# Altium footprint library usomiq-audio.PcbLib: 14 footprints
Each footprint in its own frame and in the unit in brackets; x right, y up, seen from the top. Pads: shape width x height; smd on the part's side, far side on the other; paste and mask are expansions set on the pad; w line width, h text height; cw(c..) or ccw(c..) is an arc to the next point about the centre after c.
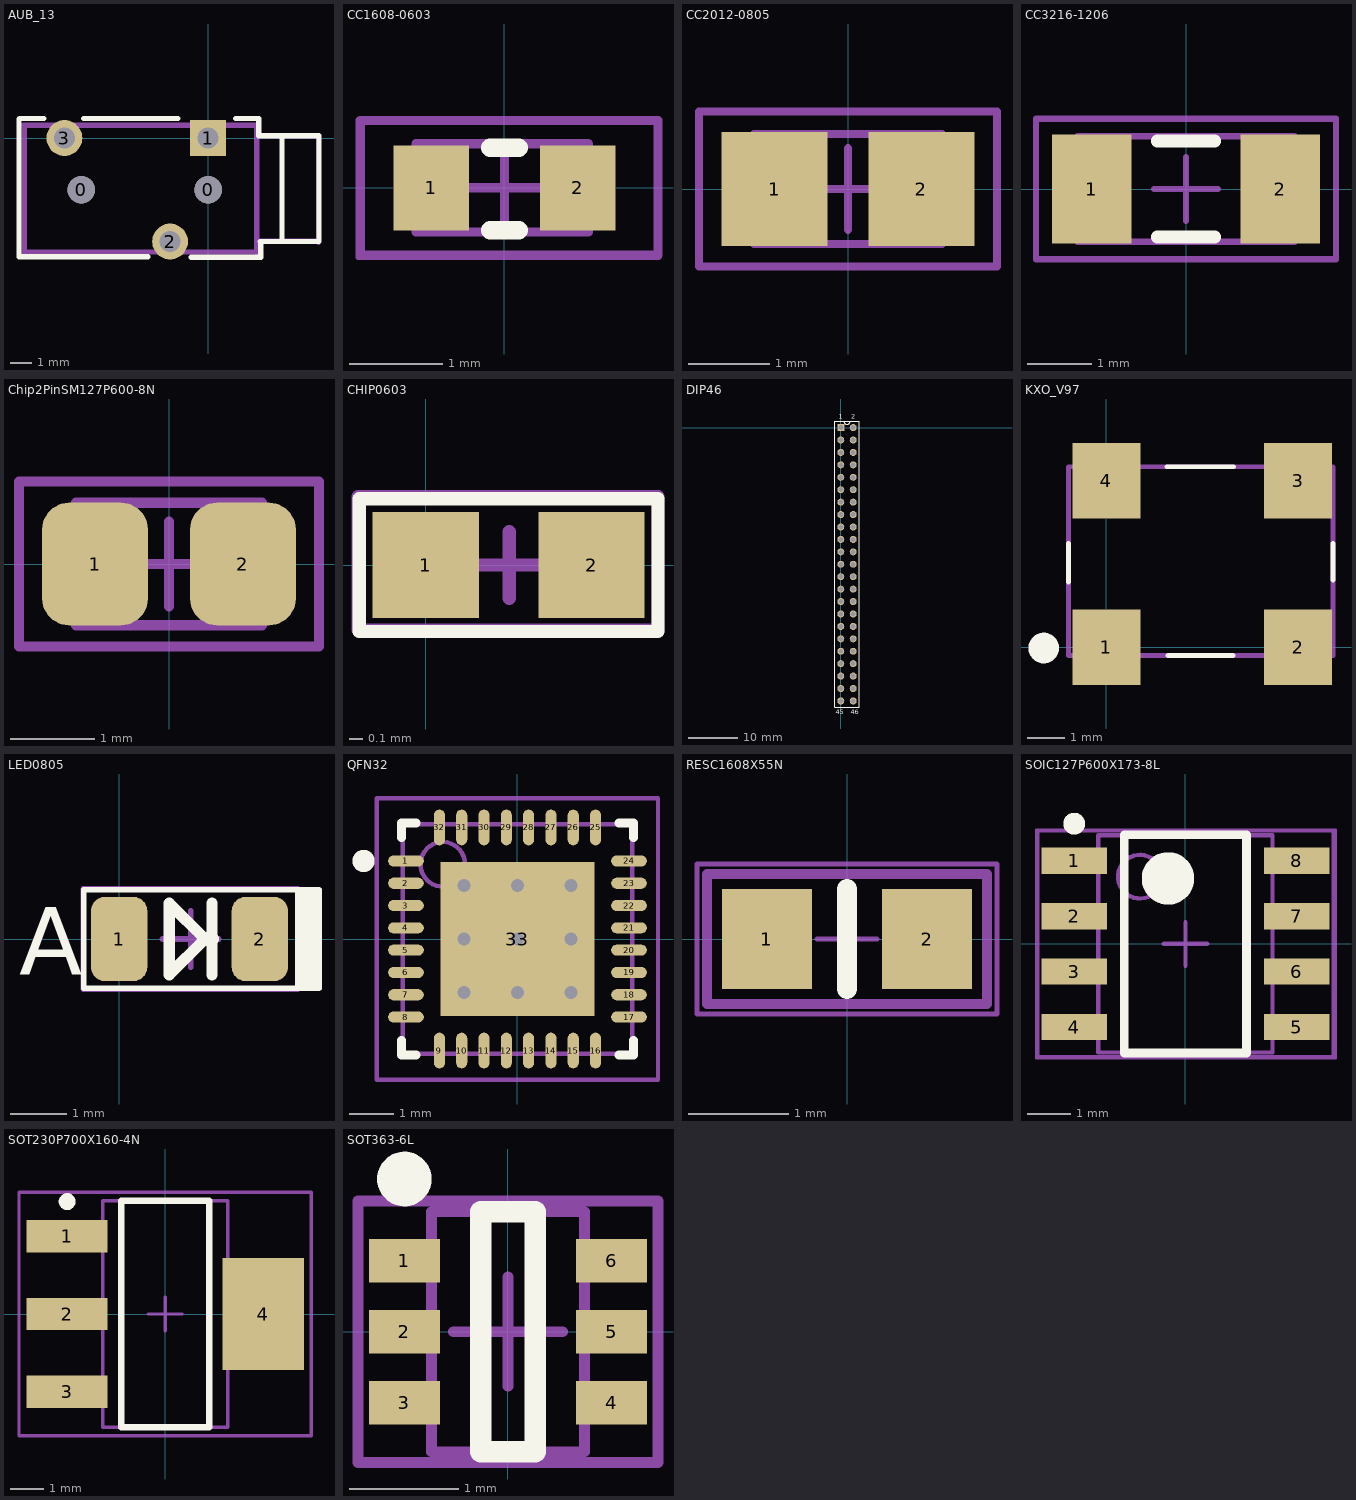
[diagram p0: the footprints below, top view; thin cyan lines are the x and y axes]

## AUB_13 [mm] "3.5mm audio jack, PTH on pcb, 3 contacts"
height 5
pads (5):
  round 1.3 hole 1.3 unplated: 0(-6,-2.45) 0(0,-2.45)
  rect 1.7x1.7 hole 1: 1(0,0)
  round 1.7 hole 1: 2(-1.8,-4.9) 3(-6.8,0)
Top Overlay:
  lines w0.254: -7.775,0.925 -8.925,0.925 -8.95,0.9 -8.95,-5.625 -2.85,-5.625 ; -5.9,0.925 -1.425,0.925 ; -0.8,-5.65 2.5,-5.65 2.5,-4.925 ; 1.3,0.925 2.4,0.925 2.4,0.1 5.25,0.1 5.25,-4.9 3.5,-4.9 3.5,0.1 ; 2.475,-4.9 5.225,-4.9
Mechanical 15:
  lines w0.254: -8.725,0.6 2.275,0.6 ; -8.7,-5.4 -8.7,0.6 ; -8.675,-5.375 2.275,-5.401 ; 2.3,-5.4 2.3,0.6 ; 2.3,-4.875 5.225,-4.875 ; 2.3,0.1 5.2,0.1 ; 5.225,-4.925 5.225,0.05
3D body: height 5, standoff 0, extent -8.725,-5.375 5.2,0.6

## CC1608-0603 [mil] "Chip Capacitor, 2-Leads, Body 1,6x0,8mm, IPC Medium Density"
height 17.72
pads (2):
  rect 32x36 smd: 1(-31,0) 2(31,0)
Top Overlay:
  lines w7.87: -6,-18 6,-18 ; -6,17 6,17
Mechanical 2:
  lines w1.97: -62.01,-29.53 64.96,-29.53 64.96,28.54 -62.01,28.54 -62.01,-29.53
  text ".designator" at -43.31,-10.83 h19.68
Mechanical 13:
  lines w3.94: -37.42,-18.7 -37.42,18.7 35.42,18.7 35.42,-18.7 -37.42,-18.7
Mechanical 15:
  lines w3.94: -18.7,0 18.7,0 ; 0,-18.7 0,18.7 ; -60.99,-28.54 64.99,-28.54 64.99,28.54 -60.99,28.54 -60.99,-28.54
3D body: height 31.5, standoff 0, extent -31.49,-15.74 31.5,15.75

## CC2012-0805 [mm] "Chip Capacitor, 2-Leads, Body 2,0x1,25mm, IPC Medium Density"
height 0.6
pads (2):
  rect 1.3x1.4 smd: 1(-0.9,0) 2(0.9,0)
Mechanical 2:
  lines w0.05: -1.85,0.925 -1.85,-0.925 1.825,-0.925 1.825,0.95 -1.85,0.95
  text ".designator" at -1.525,-0.225 h0.5
Mechanical 13:
  lines w0.1: -1.15,-0.675 1.15,-0.675 1.15,0.675 -1.15,0.675 -1.15,-0.675
Mechanical 15:
  lines w0.1: -0.5,0 0.5,0 ; 0,-0.5 0,0.5 ; -1.825,-0.95 1.825,-0.95 1.825,0.95 -1.825,0.95 -1.825,-0.95
3D body: height 1.2, standoff 0, extent -1,-0.6 1,0.6

## CC3216-1206 [mm] "Chip Capacitor, 2-Leads, Body 3,2x1,6mm, IPC Medium Density"
height 0.7
pads (2):
  rect 1.25x1.7 smd: 1(-1.475,0) 2(1.475,0)
Top Overlay:
  lines w0.2: -0.45,-0.75 0.45,-0.75 ; -0.45,0.75 0.45,0.75
Mechanical 2:
  lines w0.05: -2.35,-1.1 2.35,-1.1 2.35,1.1 -2.35,1.1 -2.35,-1.1
  text ".designator" at -1.775,-0.2 h0.5
Mechanical 13:
  lines w0.1: -1.7,-0.825 1.7,-0.825 1.7,0.825 -1.7,0.825 -1.7,-0.825
Mechanical 15:
  lines w0.1: -0.5,0 0.5,0 ; 0,-0.5 0,0.5 ; -2.35,-1.1 2.35,-1.1 2.35,1.1 -2.35,1.1 -2.35,-1.1
3D body: height 0.7, standoff 0, extent -1.7,-0.825 1.7,0.825

## Chip2PinSM127P600-8N [mm]
height 1.05
pads (2):
  rrect50% 1.25x1.45 smd: 1(-0.875,0) 2(0.875,0)
Mechanical 13:
  lines w0.12: -1.1,-0.725 1.1,-0.725 1.1,0.725 -1.1,0.725 -1.1,-0.725
Mechanical 15:
  lines w0.12: -0.5,0 0.5,0 ; 0,-0.5 0,0.5 ; -1.775,-0.975 1.775,-0.975 1.775,0.975 -1.775,0.975 -1.775,-0.975
3D body: height 1.05, standoff 0, extent -1.1,-0.725 1.1,0.725

## CHIP0603 [mm]
height 0.7
pads (2):
  rect 0.8x0.8 smd: 1(0,0) 2(1.25,0)
Top Overlay:
  lines w0.1: -0.5,-0.5 1.75,-0.5 1.75,0.5 -0.5,0.5 -0.5,-0.5
Mechanical 13:
  lines w0.1: -0.51,-0.49 1.75,-0.49 1.75,0.51 -0.51,0.51 -0.51,-0.49
Mechanical 15:
  lines w0.1: 0.38,0 0.88,0 ; 0.63,-0.25 0.63,0.25 ; -0.51,-0.49 1.75,-0.49 1.75,0.516 -0.51,0.516 -0.51,-0.49
3D body: height 0.7, standoff 0.1, extent -0.525,-0.5 1.75,0.51
3D body: height 0.95, standoff 0, extent -0.165,-0.4 1.435,0.4

## DIP46 [mm]
pads (46):
  rect 1.42x1.42 hole 1.02: 1(0,0)
  round 1.42 hole 1.02: 2(2.54,0) 3(0,-2.54) 4(2.54,-2.54) 5(0,-5.08) 6(2.54,-5.08) 7(0,-7.62) 8(2.54,-7.62) 9(0,-10.16) 10(2.54,-10.16) 11(0,-12.7) 12(2.54,-12.7) 13(0,-15.24) 14(2.54,-15.24) 15(0,-17.78) 16(2.54,-17.78) 17(0,-20.32) 18(2.54,-20.32) 19(0,-22.86) 20(2.54,-22.86) 21(0,-25.4) 22(2.54,-25.4) 23(0,-27.94) 24(2.54,-27.94) 25(0,-30.48) 26(2.54,-30.48) 27(0,-33.02) 28(2.54,-33.02) 29(0,-35.56) 30(2.54,-35.56) 31(0,-38.1) 32(2.54,-38.1) 33(0,-40.64) 34(2.54,-40.64) 35(0,-43.18) 36(2.54,-43.18) 37(0,-45.72) 38(2.54,-45.72) 39(0,-48.26) 40(2.54,-48.26) 41(0,-50.8) 42(2.54,-50.8) 43(0,-53.34) 44(2.54,-53.34) 45(0,-55.88) 46(2.54,-55.88)
Top Overlay:
  lines w0.2: -1.27,-57.15 -1.27,1.27 1.905,1.27 cw(c1.27,1.27) 0.635,1.27 3.81,1.27 3.81,-57.15 -1.27,-57.15
  text "1" at -0.381,1.778 h1
  text "2" at 2.159,1.778 h1
  text "45" at -1.016,-58.547 h1
  text "46" at 2.032,-58.547 h1
3D body: height 8.51, standoff 0, extent -1.27,-57.15 3.81,1.27

## KXO_V97 [mm]
height 1.3
pads (4):
  rect 1.8x2 smd: 1(0,0) 2(5.08,0) 3(5.08,4.4) 4(0,4.4)
Top Overlay:
  circle w0.4: c-1.656,-0.025 r0.206
  lines w0.127: -1,1.725 -1,2.75 ; 1.6,4.775 3.375,4.775 ; 1.625,-0.225 3.35,-0.225 ; 6,1.775 6,2.75
Mechanical 13:
  lines w0.127: -1,-0.225 -1,4.775 6,4.775 6,-0.225 -1,-0.225
3D body: height 1.3, standoff 0, extent -1,-0.225 6,4.775

## LED0805 [mm]
height 1
pads (2):
  rrect50% 1x1.5 smd: 1(0,0) 2(2.5,0)
Top Overlay:
  lines w0.1: 3.175,-0.875 3.175,0.875 ; 3.275,-0.875 3.275,0.875 ; 3.375,-0.875 3.375,0.875 ; 3.45,-0.875 3.45,0.875 ; -0.625,-0.875 -0.625,0.875 3.55,0.875 3.55,-0.875 -0.625,-0.875
  lines w0.2: 1.651,-0.635 1.651,0.635 ; 0.889,-0.635 0.889,0.635 1.524,0 0.889,-0.635
  lines w0.254: 1.524,0 1.651,0
  text "A" at -1.778,-0.635 h1.2
Mechanical 13:
  lines w0.1: -0.635,-0.889 3.175,-0.889 3.175,0.889 -0.635,0.889 -0.635,-0.889
Mechanical 15:
  lines w0.1: 0.77,0 1.77,0 ; 1.27,-0.5 1.27,0.5 ; -0.635,-0.889 3.175,-0.889 3.175,0.889 -0.635,0.889 -0.635,-0.889
3D body: height 1.1, standoff 0, extent 0.26,-0.625 2.28,0.625
3D body: height 1, standoff 0.1, extent -0.635,-0.889 3.175,0.889

## QFN32 [mm] "32-Pin Quad Flat No-Lead 0.5 mm Pitch, IPC Medium Density"
height 1
pads (33):
  oval 0.8x0.25 smd: 1(-2.5,1.75) 2(-2.5,1.25) 3(-2.5,0.75) 4(-2.5,0.25) 5(-2.5,-0.25) 6(-2.5,-0.75) 7(-2.5,-1.25) 8(-2.5,-1.75) 17(2.5,-1.75) 18(2.5,-1.25) 19(2.5,-0.75) 20(2.5,-0.25) 21(2.5,0.25) 22(2.5,0.75) 23(2.5,1.25) 24(2.5,1.75)
  oval 0.25x0.8 smd: 9(-1.75,-2.5) 10(-1.25,-2.5) 11(-0.75,-2.5) 12(-0.25,-2.5) 13(0.25,-2.5) 14(0.75,-2.5) 15(1.25,-2.5) 16(1.75,-2.5) 25(1.75,2.5) 26(1.25,2.5) 27(0.75,2.5) 28(0.25,2.5) 29(-0.25,2.5) 30(-0.75,2.5) 31(-1.25,2.5) 32(-1.75,2.5)
  rect 3.45x3.45 smd: 33(0,0)
via 1.2,-1.2 diameter 0.8 hole 0.3
via 0,-1.2 diameter 0.8 hole 0.3
via -1.2,-1.2 diameter 0.8 hole 0.3
via 1.2,0 diameter 0.8 hole 0.3
via 0,0 diameter 0.8 hole 0.3
via -1.2,0 diameter 0.8 hole 0.3
via 1.2,1.2 diameter 0.8 hole 0.3
via 0,1.2 diameter 0.8 hole 0.3
via -1.2,1.2 diameter 0.8 hole 0.3
Top Overlay:
  circle w0.25: c-3.45,1.75 r0.125
  lines w0.2: -2.6,-2.275 -2.6,-2.6 -2.275,-2.6 ; -2.6,2.275 -2.6,2.6 -2.275,2.6 ; 2.275,-2.6 2.6,-2.6 2.6,-2.275 ; 2.275,2.6 2.6,2.6 2.6,2.275
Bottom Solder:
  circle w0.4: c1.2,-1.2 r0.15
  circle w0.4: c1.2,0 r0.15
  circle w0.4: c1.2,1.2 r0.15
  circle w0.4: c0,1.2 r0.15
  circle w0.4: c0,0 r0.15
  circle w0.4: c0,-1.2 r0.15
  circle w0.4: c-1.2,-1.2 r0.15
  circle w0.4: c-1.2,0 r0.15
  circle w0.4: c-1.2,1.2 r0.15
Mechanical 13:
  circle w0.1: c-1.675,1.675 r0.5
  lines w0.1: -2.575,-2.575 2.575,-2.575 2.575,2.575 -2.575,2.575 -2.575,-2.575
Mechanical 15:
  lines w0.1: -0.5,0 0.5,0 ; 0,-0.5 0,0.5 ; -3.15,-3.15 3.15,-3.15 3.15,3.15 -3.15,3.15 -3.15,-3.15
3D body: height 0.8, standoff 0, extent -2.51,-2.51 2.51,2.51

## RESC1608X55N [mm] "Chip Resistor, EIA 0603, Metric 1608, Body 1.6x0.8mm, IPC Medium Density"
height 0.55
pads (2):
  rect 0.9x1 smd: 1(-0.8,0) 2(0.8,0)
Top Overlay:
  lines w0.2: 0,-0.5 0,0.5
Mechanical 2:
  lines w0.05: -1.5,-0.75 -1.5,0.75 1.5,0.75 1.5,-0.75 -1.5,-0.75
  text ".designator" at -1.225,-0.1 h0.5
Mechanical 14:
  lines w0.1: -1.4,-0.65 1.4,-0.65 1.4,0.65 -1.4,0.65 -1.4,-0.65
Mechanical 15:
  lines w0.05: -0.3,0 0.3,0 ; 0,-0.3 0,0.3 ; -1.5,-0.75 -1.5,0.75 1.5,0.75 1.5,-0.75 -1.5,-0.75
3D body: height 0.55, standoff 0, extent -0.875,-0.475 0.875,0.475

## SOIC127P600X173-8L [mm] "SOIC, 8-Leads, Body 5,0x4,0mm (max), Pitch 1,27mm, IPC High Density"
height 1.727
pads (8):
  rect 1.5x0.6 smd: 1(-2.55,1.905) 2(-2.55,0.635) 3(-2.55,-0.635) 4(-2.55,-1.905) 5(2.55,-1.905) 6(2.55,-0.635) 7(2.55,0.635) 8(2.55,1.905)
Top Overlay:
  circle w0.6: c-0.4,1.5 r0.3
  circle w0.25: c-2.55,2.755 r0.125
  lines w0.2: -1.4,-2.5 1.4,-2.5 1.4,2.5 -1.4,2.5 -1.4,-2.5
Mechanical 2:
  lines w0.05: -3.425,2.575 -3.425,-2.625 3.45,-2.625 3.45,2.625 -3.425,2.625
  text ".designator" at -2.35,-0.225 h0.5
Mechanical 13:
  circle w0.1: c-1.045,1.54 r0.5
  lines w0.1: -1.995,-2.49 1.995,-2.49 1.995,2.49 -1.995,2.49 -1.995,-2.49
Mechanical 15:
  lines w0.1: -0.5,0 0.5,0 ; 0,-0.5 0,0.5 ; -3.4,-2.6 3.4,-2.6 3.4,2.6 -3.4,2.6 -3.4,-2.6
3D body: height 1.73, standoff 0.1, extent -1.995,-2.49 1.995,2.49
3D body: height 1.75, standoff 0, extent -3,-2.45 3,2.45

## SOT230P700X160-4N [mm] "SOT223, 4-Leads, Body 6,7x7,3mm (max), Pitch 2,30mm, IPC Medium Density"
height 1.6
pads (4):
  rect 2.4x0.95 smd: 1(-2.9,2.3) 2(-2.9,0) 3(-2.9,-2.3)
  rect 2.4x3.3 smd: 4(2.9,0)
Top Overlay:
  circle w0.25: c-2.9,3.325 r0.125
  lines w0.2: -1.3,-3.35 -1.3,3.35 1.3,3.35 1.3,-3.35 -1.3,-3.35
Mechanical 13:
  lines w0.1: -1.85,-3.35 -1.85,3.35 1.85,3.35 1.85,-3.35 -1.85,-3.35
Mechanical 15:
  lines w0.1: -0.5,0 0.5,0 ; 0,-0.5 0,0.5 ; -4.325,-3.6 -4.325,3.6 4.325,3.6 4.325,-3.6 -4.325,-3.6
3D body: height 1.6, standoff 0.02, extent -1.85,-3.35 1.85,3.35
3D body: height 1.7, standoff 0.02, extent -3.48,-3.25 3.48,3.25

## SOT363-6L [mm] "SOT363, 6-Leads, Body 2x1.3mm, Pitch 0.65mm, Lead Span 2.1mm, IPC High Density"
height 1
pads (6):
  rect 0.65x0.4 smd: 1(-0.95,0.65) 2(-0.95,0) 3(-0.95,-0.65) 4(0.95,-0.65) 5(0.95,0) 6(0.95,0.65)
Top Overlay:
  circle w0.25: c-0.95,1.4 r0.125
  lines w0.2: -0.25,-1.1 0.25,-1.1 0.25,1.1 -0.25,1.1 -0.25,-1.1
Mechanical 13:
  lines w0.1: -0.7,-1.1 -0.7,1.1 0.7,1.1 0.7,-1.1 -0.7,-1.1
Mechanical 15:
  lines w0.1: -0.5,0 0.5,0 ; 0,-0.5 0,0.5 ; -1.375,-1.2 -1.375,1.2 1.375,1.2 1.375,-1.2 -1.375,-1.2
3D body: height 1, standoff 0, extent -0.7,-1.1 0.7,1.1
3D body: height 1, standoff 0, extent -1.15,-1.05 1.15,1.05